# EAGLE library part LMC6482IMM (library Rebel)
OpAmpIC
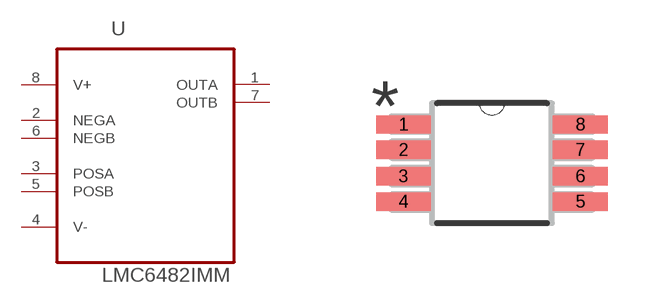
[diagram p21: symbol with the pads of SOP65P490X109-8N; footprint SOP65P490X109-8N]

Designator prefix U

## LMC6482IMM (MPN: LMC6482IMM; OC_FARNELL: 1468890; OC_NEWARK: 83F3826; PACKAGE: MSOP-8; SUPPLIER: NationalSemiconductor)  [SOP65P490X109-8N]
1  OUTA  out
2  NEGA  in
3  POSA  in
4  V-  pwr
5  POSB  in
6  NEGB  in
7  OUTB  out
8  V+  pwr

## Footprint SOP65P490X109-8N (pad centres in mm)
smd 1.372 x 0.457: 1 -2.21,0.965; 2 -2.21,0.33; 3 -2.21,-0.33; 4 -2.21,-0.965; 5 2.21,-0.965; 6 2.21,-0.33; 7 2.21,0.33; 8 2.21,0.965